# EAGLE library part TXM-XXX-LR (library linx_lr)
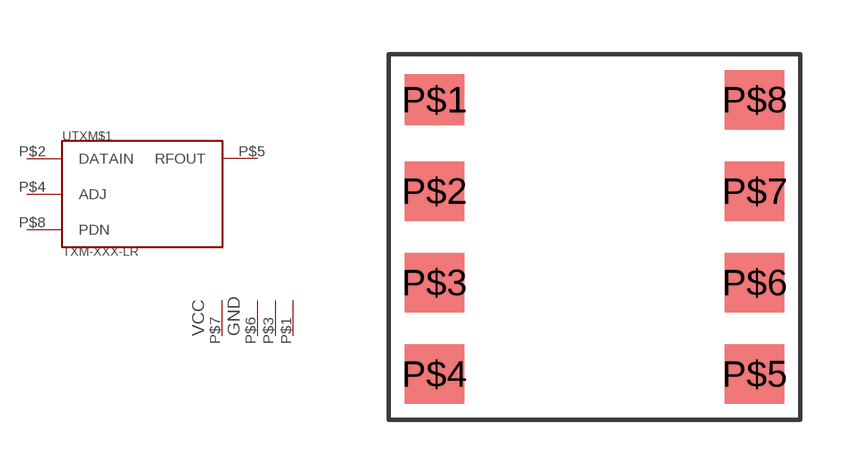
[diagram p0: symbol with the pads of TXM-XXX-LR; footprint TXM-XXX-LR]

Designator prefix -; gates G$1=1VCC3GND TXM$1=TXM-XXX-LR

## TXM-XXX-LR  [TXM-XXX-LR]
P$1  G$1:GND  pwr
P$2  TXM$1:DATAIN
P$3  G$1:GND  pwr
P$4  TXM$1:ADJ
P$5  TXM$1:RFOUT
P$6  G$1:GND  pwr
P$7  G$1:VCC  pwr
P$8  TXM$1:PDN

## Footprint TXM-XXX-LR (pad centres in mm)
smd 1.651 x 1.422: P$1 -3.81,3.81
smd 1.651 x 1.651: P$2 -3.81,1.27; P$3 -3.81,-1.27; P$4 -3.81,-3.81; P$5 5.08,-3.81; P$6 5.08,-1.27; P$7 5.08,1.27; P$8 5.08,3.81